# Altium footprint library Audio_Mini.PcbLib: 24 footprints (part 1 of 2)
Each footprint in its own frame and in the unit in brackets; x right, y up, seen from the top. Pads: shape width x height; smd on the part's side, far side on the other; paste and mask are expansions set on the pad; w line width, h text height; cw(c..) or ccw(c..) is an arc to the next point about the centre after c.
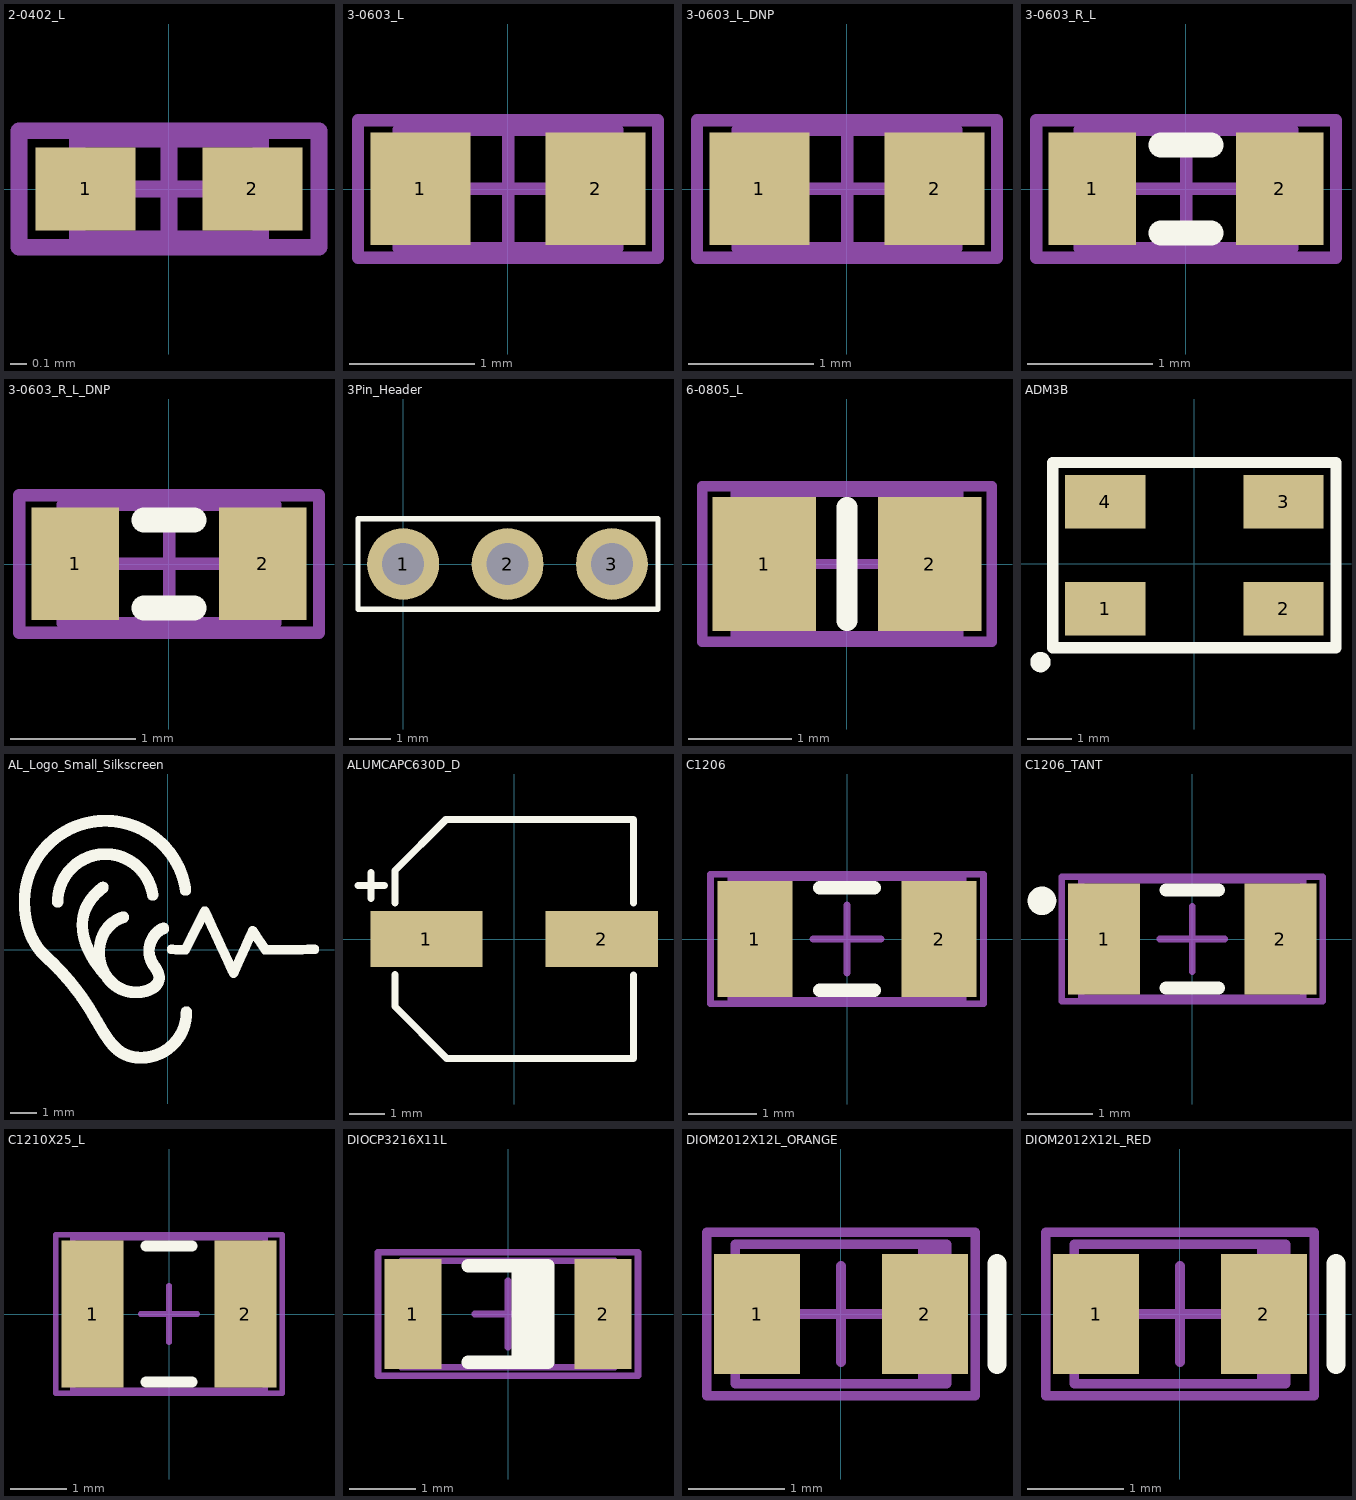
[diagram p0: the footprints below, top view; thin cyan lines are the x and y axes]

## 2-0402_L [mm] "Chip Capacitor, Body 1.0x0.5mm, IPC High Density"
height 0.55
pads (2):
  rect 0.6x0.5 smd: 1(-0.5,0) 2(0.5,0)
Mechanical 13:
  lines w0.1: -0.55,-0.3 0.55,-0.3 0.55,0.3 -0.55,0.3 -0.55,-0.3
Mechanical 15:
  lines w0.1: -0.3,0 0.3,0 ; 0,-0.3 0,0.3 ; -0.9,-0.35 0.9,-0.35 0.9,0.35 -0.9,0.35 -0.9,-0.35
3D body "CAPC1005X06_0402_capacitor.step": height 0.6, standoff 0, extent -0.5,-0.25 0.5,0.25

## 3-0603_L [mm] "Chip Capacitor, Body 1.6x0.8mm, IPC High Density"
height 0.95
pads (2):
  rect 0.8x0.9 smd: 1(-0.7,0) 2(0.7,0)
Mechanical 13:
  lines w0.1: -0.875,-0.475 -0.875,0.475 0.875,0.475 0.875,-0.475 -0.875,-0.475
Mechanical 15:
  lines w0.1: -0.475,0 0.475,0 ; 0,-0.475 0,0.475 ; -1.2,-0.55 -1.2,0.55 1.2,0.55 1.2,-0.55 -1.2,-0.55
3D body "CAPC1608X09_0603_capacitor.step": height 0.9, standoff 0, extent -0.8,-0.4 0.8,0.4

## 3-0603_L_DNP [mm] "Chip Capacitor, Body 1.6x0.8mm, IPC High Density"
height 0.95
pads (2):
  rect 0.8x0.9 smd: 1(-0.7,0) 2(0.7,0)
Mechanical 13:
  lines w0.1: -0.875,-0.475 -0.875,0.475 0.875,0.475 0.875,-0.475 -0.875,-0.475
Mechanical 15:
  lines w0.1: -0.475,0 0.475,0 ; 0,-0.475 0,0.475 ; -1.2,-0.55 -1.2,0.55 1.2,0.55 1.2,-0.55 -1.2,-0.55

## 3-0603_R_L [mm] "Chip Resistor, Body 1.6x0.8mm, IPC High Density"
height 0.55
pads (2):
  rect 0.7x0.9 smd: 1(-0.75,0) 2(0.75,0)
Top Overlay:
  lines w0.2: -0.2,-0.35 0.2,-0.35 ; -0.2,0.35 0.2,0.35
Mechanical 13:
  lines w0.1: -0.85,-0.475 -0.85,0.475 0.85,0.475 0.85,-0.475 -0.85,-0.475
Mechanical 15:
  lines w0.1: -0.475,0 0.475,0 ; 0,-0.475 0,0.475 ; -1.2,-0.55 -1.2,0.55 1.2,0.55 1.2,-0.55 -1.2,-0.55
3D body "RESC1608X05N_0603_resistor.step": height 0.45, standoff 0, extent -0.775,-0.425 0.775,0.425

## 3-0603_R_L_DNP [mm] "Chip Resistor, Body 1.6x0.8mm, IPC High Density"
height 0.55
pads (2):
  rect 0.7x0.9 smd: 1(-0.75,0) 2(0.75,0)
Top Overlay:
  lines w0.2: -0.2,-0.35 0.2,-0.35 ; -0.2,0.35 0.2,0.35
Mechanical 13:
  lines w0.1: -0.85,-0.475 -0.85,0.475 0.85,0.475 0.85,-0.475 -0.85,-0.475
Mechanical 15:
  lines w0.1: -0.475,0 0.475,0 ; 0,-0.475 0,0.475 ; -1.2,-0.55 -1.2,0.55 1.2,0.55 1.2,-0.55 -1.2,-0.55

## 3Pin_Header [mm]
pads (3):
  round 1.75 hole 1.02: 1(0,0) 2(2.54,0) 3(5.08,0)
Top Overlay:
  lines w0.127: -1.1,-1.1 -1.1,1.1 6.2,1.1 6.2,-1.1 -1.1,-1.1
3D body "TSW-103-07-G-S.stp": height 8.38, standoff -2.54, extent -1.373,-1.24 6.373,1.3

## 6-0805_L [mm] "Chip Capacitor, Body 2.0x1.2mm, IPC High Density"
height 1.45
pads (2):
  rect 1x1.3 smd: 1(-0.8,0) 2(0.8,0)
Top Overlay:
  lines w0.2: 0,-0.55 0,0.55
Mechanical 13:
  lines w0.1: -1.075,-0.7 -1.075,0.7 1.075,0.7 1.075,-0.7 -1.075,-0.7
Mechanical 15:
  lines w0.1: -0.5,0 0.5,0 ; 0,-0.5 0,0.5 ; -1.4,-0.75 -1.4,0.75 1.4,0.75 1.4,-0.75 -1.4,-0.75
3D body "CAPC2013X10_0805_capacitor.step": height 1, standoff 0, extent -1,-0.625 1,0.625

## ADM3B [mm] "Ceramic SMD Crystal"
height 1.1
pads (4):
  rect 1.8x1.2 smd: 1(-2,-1) 2(2,-1) 3(2,1.4) 4(-2,1.4)
Top Overlay:
  circle w0.254: c-3.45,-2.2 r0.1
  lines w0.254: -3.175,-1.875 -3.175,2.275 3.175,2.275 3.175,-1.875 -3.175,-1.875
3D body "ABM3B.STEP": height 1.1, standoff -0.01, extent -2.55,-1.35 2.45,1.825

## AL_Logo_Small_Silkscreen [mm] "Audio Logic Logo Silkscreen"
Top Overlay:
  drawing of 4909 lines, arcs and shapes, not listed

## ALUMCAPC630D_D [mm] "Panasonic Aluminum Electrolytic Capacitor, 6.3mm in diameter"
height 6.1
pads (2):
  rect 3.2x1.6 smd: 1(-2.5,0) 2(2.5,0)
Top Overlay:
  lines w0.2: -4.45,1.525 -3.7,1.525 ; -4.075,1.15 -4.075,1.9 ; -3.4,-1.012 -3.4,-1.925 -1.925,-3.4 3.4,-3.4 3.4,-1.02 ; -3.4,1.02 -3.4,1.95 -1.95,3.4 3.4,3.4 3.4,1.02
3D body "SW3dPS-capacitor size D.STEP": height 5.41, standoff -0.01, extent -3.5,-3.3 3.5,3.3

## C1206 [mm] "Chip Capacitor, Body 3.2x1.6mm, IPC High Density"
height 1.3
pads (2):
  rect 1.1x1.7 smd: 1(-1.35,0) 2(1.35,0)
Top Overlay:
  lines w0.2: -0.4,-0.75 0.4,-0.75 ; -0.4,0.75 0.4,0.75
Mechanical 13:
  lines w0.1: -1.7,-0.9 -1.7,0.9 1.7,0.9 1.7,-0.9 -1.7,-0.9
Mechanical 15:
  lines w0.1: -0.5,0 0.5,0 ; 0,-0.5 0,0.5 ; -2,-0.95 -2,0.95 2,0.95 2,-0.95 -2,-0.95
3D body "1206 SMD Capacitor.step": height 1, standoff 0, extent -1.6,-0.8 1.6,0.8

## C1206_TANT [mm] "Chip Capacitor, Body 3.2x1.6mm (CASE A), IPC High Density"
height 1.8
pads (2):
  rect 1.1x1.7 smd: 1(-1.35,0) 2(1.35,0)
Top Overlay:
  circle w0.254: c-2.301,0.584 r0.092
  lines w0.2: -0.4,-0.75 0.4,-0.75 ; -0.4,0.75 0.4,0.75
Mechanical 13:
  lines w0.1: -1.7,-0.9 -1.7,0.9 1.7,0.9 1.7,-0.9 -1.7,-0.9
Mechanical 15:
  lines w0.1: -0.5,0 0.5,0 ; 0,-0.5 0,0.5 ; -2,-0.95 -2,0.95 2,0.95 2,-0.95 -2,-0.95
3D body "Tantalum Capacitor Case A.STEP": height 1.64, standoff -0.01, extent -1.695,-0.8 1.695,0.8

## C1210X25_L [mm] "Chip Capacitor, Body 3.2x2.5mm, IPC High Density"
height 2.5
pads (2):
  rect 1.1x2.6 smd: 1(-1.35,0) 2(1.35,0)
Top Overlay:
  lines w0.2: -0.4,-1.2 0.4,-1.2 ; -0.4,1.2 0.4,1.2
Mechanical 13:
  lines w0.1: -1.7,-1.35 -1.7,1.35 1.7,1.35 1.7,-1.35 -1.7,-1.35
Mechanical 15:
  lines w0.1: -0.5,0 0.5,0 ; 0,-0.5 0,0.5 ; -2,-1.4 -2,1.4 2,1.4 2,-1.4 -2,-1.4
3D body "CAPC3225X25_1210_capacitor_2.5mmthick.step": height 2.5, standoff 0, extent -1.6,-1.25 1.6,1.25

## DIOCP3216X11L [mm] "Chip Diode, 2-Leads, Body 3.2x1.6mm, IPC High Density"
height 1.1
pads (2):
  rect 0.85x1.65 smd: 1(-1.425,0) 2(1.425,0)
Top Overlay:
  rectangle: 0.05,-0.725 0.6,0.725
  lines w0.2: -0.6,-0.725 0.6,-0.725 0.6,0.725 -0.6,0.725
Mechanical 13:
  lines w0.1: -1.6,-0.8 -1.6,0.8 1.6,0.8 1.6,-0.8 -1.6,-0.8
Mechanical 15:
  lines w0.1: -0.5,0 0.5,0 ; 0,-0.5 0,0.5 ; -1.95,-0.925 -1.95,0.925 1.95,0.925 1.95,-0.925 -1.95,-0.925
3D body "User Library-LED 1206.STEP": height 1.1, standoff 0, extent -1.6,-0.8 1.6,0.8

## DIOM2012X12L_ORANGE [mm] "Molded Diode, 2-Leads, Body 2.0x1.3mm, IPC High Density"
height 1.2
pads (2):
  rect 0.9x1.25 smd: 1(-0.875,0) 2(0.875,0)
Top Overlay:
  lines w0.2: 1.625,-0.525 1.625,0.525
Mechanical 13:
  rectangle: 0.803,-0.725 1.099,0.725
  lines w0.1: -1.1,-0.725 -1.1,0.725 1.1,0.725 1.1,-0.725 -1.1,-0.725
Mechanical 15:
  lines w0.1: -0.5,0 0.5,0 ; 0,-0.5 0,0.5 ; -1.4,-0.85 -1.4,0.85 1.4,0.85 1.4,-0.85 -1.4,-0.85
3D body "led_orange_0805.step": height 1.1, standoff 0, extent -1.01,-0.625 1.01,0.625

## DIOM2012X12L_RED [mm] "Molded Diode, 2-Leads, Body 2.0x1.3mm, IPC High Density"
height 1.2
pads (2):
  rect 0.9x1.25 smd: 1(-0.875,0) 2(0.875,0)
Top Overlay:
  lines w0.2: 1.625,-0.525 1.625,0.525
Mechanical 13:
  rectangle: 0.803,-0.726 1.099,0.724
  lines w0.1: -1.1,-0.725 -1.1,0.725 1.1,0.725 1.1,-0.725 -1.1,-0.725
Mechanical 15:
  lines w0.1: -0.5,0 0.5,0 ; 0,-0.5 0,0.5 ; -1.4,-0.85 -1.4,0.85 1.4,0.85 1.4,-0.85 -1.4,-0.85
3D body "led_red_0805.step": height 1.1, standoff 0, extent -1.01,-0.625 1.01,0.625